# Altium footprint library Flex_PCB_footprints.PcbLib: 36 footprints (part 2 of 3)
Each footprint in its own frame and in the unit in brackets; x right, y up, seen from the top. Pads: shape width x height; smd on the part's side, far side on the other; paste and mask are expansions set on the pad; w line width, h text height; cw(c..) or ccw(c..) is an arc to the next point about the centre after c.
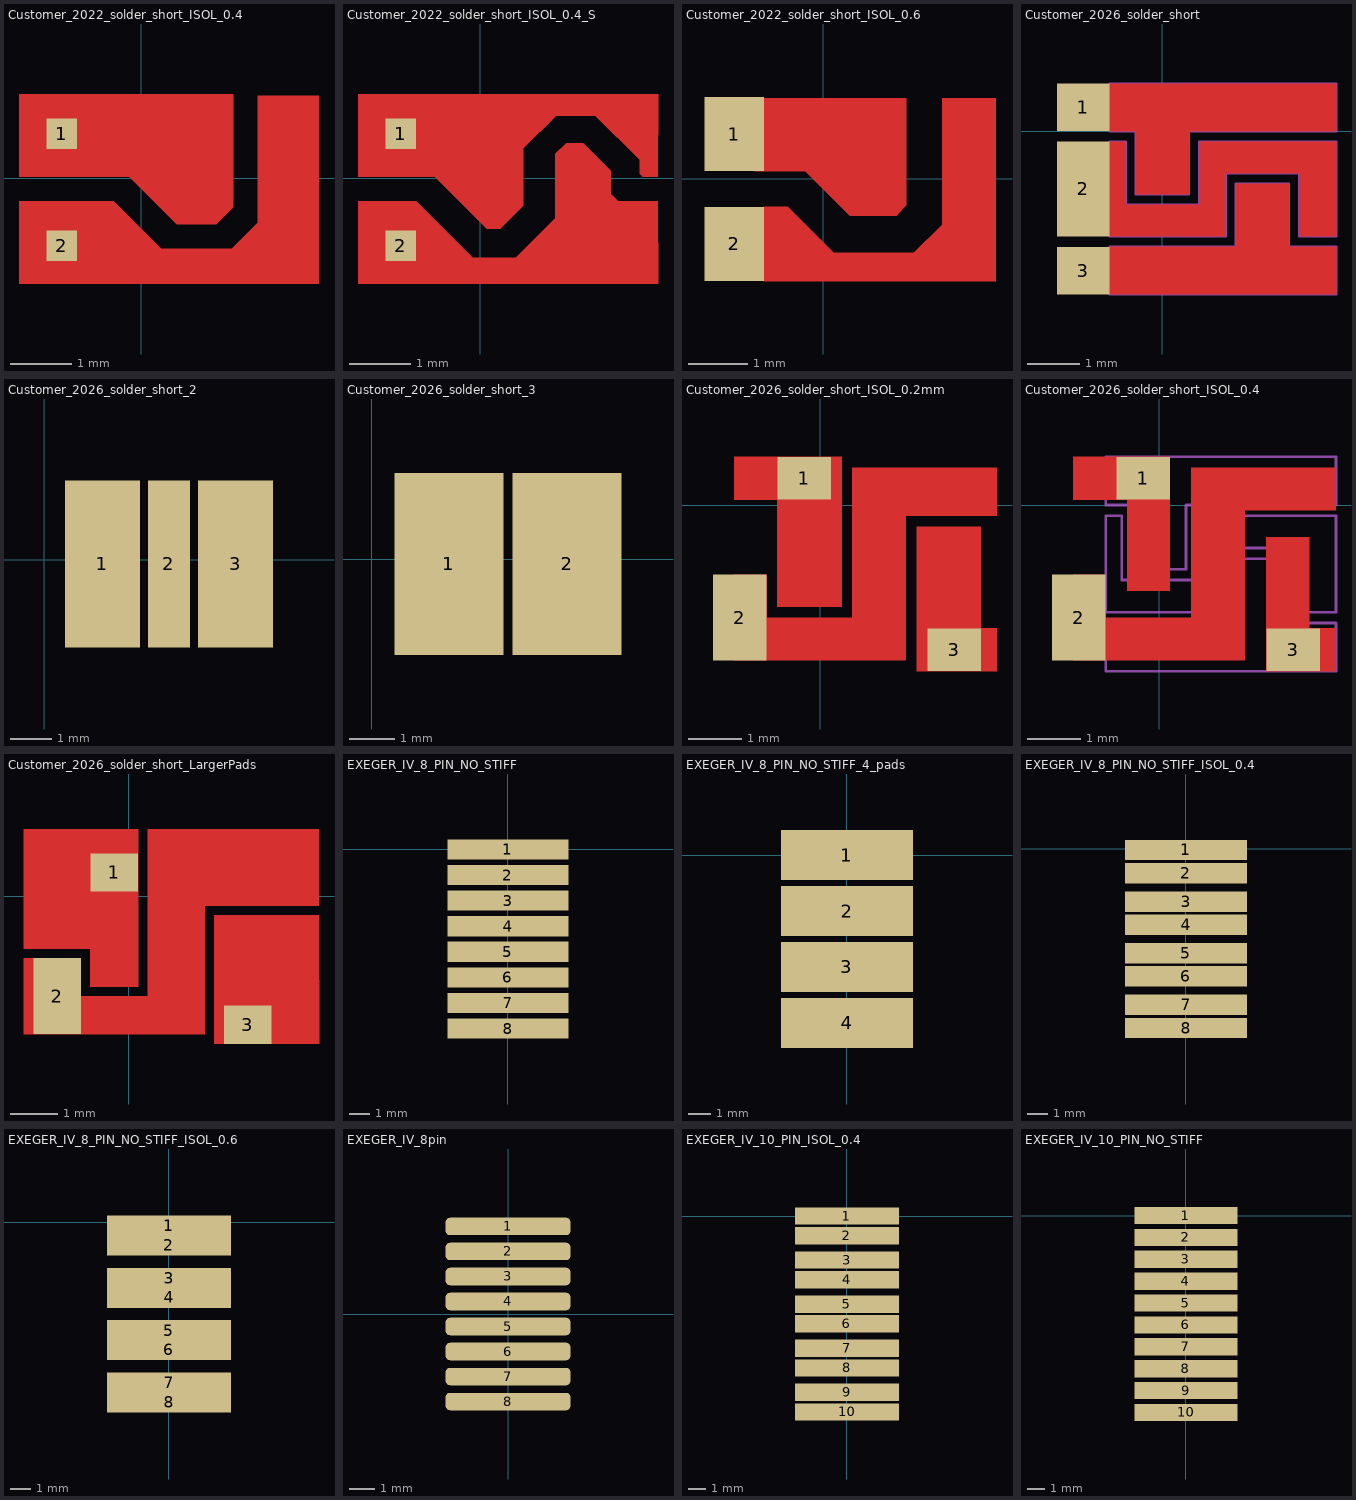
[diagram p1: the footprints below, top view; thin cyan lines are the x and y axes]

## Customer_2022_solder_short_ISOL_0.4 [mm]
pads (2):
  rect 0.5x0.5 smd paste-2 mask+0: 1(-1.3,0.725) 2(-1.3,-1.1)
Top Layer:
  region: -2,1.375 1.5,1.375 1.5,-0.475 1.225,-0.75 0.575,-0.75 -0.2,0.025 -2,0.025
  region: -2,-1.725 2.9,-1.725 2.9,1.35 1.9,1.35 1.9,-0.725 1.475,-1.15 0.325,-1.15 -0.45,-0.375 -2,-0.375
Top Paste:
  region: -2,1.375 1.5,1.375 1.5,-0.475 1.225,-0.75 0.575,-0.75 -0.2,0.025 -2,0.025
  region: -2,-1.725 2.9,-1.725 2.9,1.35 1.9,1.35 1.9,-0.725 1.475,-1.15 0.325,-1.15 -0.45,-0.375 -2,-0.375
Top Solder:
  rectangle: -2,-1.725 2.9,1.375

## Customer_2022_solder_short_ISOL_0.4_S [mm]
pads (2):
  rect 0.5x0.5 smd paste-2 mask+0: 1(-1.3,0.725) 2(-1.3,-1.1)
Top Layer:
  region: 0.7,0.488 1.237,1.025 1.875,1.025 2.6,0.3 2.6,0.075 2.65,0.025 2.9,0.025 2.9,1.375 0.7,1.375 -2,1.375 -2,0.4 -1.912,0.488
  region: -2,-1.725 2.125,-1.725 2.125,0.125 1.675,0.575 1.4,0.575 1.225,0.4 1.225,-0.65 0.575,-1.3 -0.125,-1.3 -1.05,-0.375 -2,-0.375
  region: 1.875,0 2.25,-0.375 2.9,-0.375 2.9,-1.721 2.125,-1.725 1.138,-0.737
  region: -2,1.375 0.7,1.375 0.7,-0.45 0.325,-0.825 0.1,-0.825 -0.75,0.025 -2,0.025
Top Paste:
  region: -2,-1.725 2.125,-1.725 2.125,0.125 1.675,0.575 1.4,0.575 1.225,0.4 1.225,-0.65 0.575,-1.3 -0.125,-1.3 -1.05,-0.375 -2,-0.375
  region: -2,1.375 0.7,1.375 0.7,-0.45 0.325,-0.825 0.1,-0.825 -0.75,0.025 -2,0.025
  region: 0.7,0.488 1.237,1.025 1.875,1.025 2.6,0.3 2.6,0.075 2.65,0.025 2.9,0.025 2.9,1.375 0.7,1.375 -2,1.375 -2,0.4 -1.912,0.488
  region: 1.875,0 2.25,-0.375 2.9,-0.375 2.9,-1.721 2.125,-1.725 1.138,-0.737
Top Solder:
  rectangle: -2,-1.725 2.9,1.375

## Customer_2022_solder_short_ISOL_0.6 [mm]
pads (2):
  rect 1x1.25 smd paste-2 mask+0: 1(-1.5,0.75) 2(-1.5,-1.1)
Top Layer:
  region: -1,-1.725 2.9,-1.725 2.9,1.35 2,1.35 2,0.425 2,-0.775 1.525,-1.25 0.175,-1.25 -0.6,-0.475 -1,-0.475
  region: -1.15,1.35 1.4,1.35 1.4,-0.45 1.225,-0.625 0.45,-0.625 -0.3,0.125 -1.15,0.125
Top Paste:
  rectangle: -2,-1.725 2.925,1.375
Top Solder:
  rectangle: -2,-1.725 2.9,1.375

## Customer_2026_solder_short [mm]
pads (3):
  rect 1x0.9 smd paste-2 mask+0: 1(-1.5,0.45) 3(-1.5,-2.65)
  rect 1x1.8 smd paste-2 mask+0: 2(-1.5,-1.1)
Top Layer:
  region: -1,0 -1,0.9 3.3,0.9 3.3,0 0.5,0 0.5,-1.2 -0.5,-1.2 -0.5,0
  region: -1,-2 -1,-0.2 -0.7,-0.2 -0.7,-1.4 0.7,-1.4 0.7,-0.2 3.3,-0.2 3.3,-2 2.6,-2 2.6,-0.8 1.2,-0.8 1.2,-2
  region: -1,-3.1 -1,-2.2 1.4,-2.2 1.4,-1 2.4,-1 2.4,-2.2 3.3,-2.2 3.3,-3.1 2.4,-3.1 0.9,-3.1
Top Paste:
  region: -0.8,-2.5 -0.8,-2.2 1.4,-2.2 1.4,-1 2.4,-1 2.4,-2.2 3.1,-2.2 3.1,-2.5
  region: -0.8,-2 -0.8,-0.2 -0.7,-0.2 -0.7,-1.4 0.7,-1.4 0.7,-0.2 3.1,-0.2 3.1,-2 2.6,-2 2.6,-0.8 1.2,-0.8 1.2,-2
  region: -0.8,0 -0.8,0.2 3.1,0.2 3.1,0 0.5,0 0.5,-1.2 -0.5,-1.2 -0.5,0
Top Solder:
  rectangle: -0.8,-2.5 3.1,0.2
Mechanical 15:
  lines w0.05: 2.4,-3.1 0.9,-3.1 -1,-3.1 -1,-2.2 0.9,-2.2 1.4,-2.2 1.4,-1 2.4,-1 2.4,-2.2 3.3,-2.2 3.3,-3.1 2.4,-3.1 ; 2.4,-3.1 2.4,-3.1 ; -1,-2 1.2,-2 1.2,-0.8 2.6,-0.8 2.6,-2 3.3,-2 3.3,-0.2 0.7,-0.2 0.7,-1.4 -0.7,-1.4 -0.7,-0.2 -1,-0.2 -1,-2 ; -1,0 -0.5,0 -0.5,-1.2 0.5,-1.2 0.5,0 3.3,0 3.3,0.9 0.5,0.9 -1,0.9 -1,0

## Customer_2026_solder_short_2 [mm]
pads (3):
  rect 1.8x4 smd paste+0 mask+0: 1(1.4,-0.1) 3(4.6,-0.1)
  rect 1x4 smd paste+0 mask+0: 2(3,-0.1)
Top Solder:
  rectangle: 0.5,-2.1 5.5,1.9

## Customer_2026_solder_short_3 [mm]
pads (2):
  rect 2.4x4 smd paste+0 mask+0: 1(1.7,-0.1) 2(4.3,-0.1)
Top Solder:
  rectangle: 0.5,-2.1 5.5,1.9

## Customer_2026_solder_short_ISOL_0.2mm [mm]
pads (3):
  rect 1x0.8 smd paste-2 mask+0: 1(-0.3,0.5) 3(2.5,-2.7)
  rect 1x1.6 smd paste-2 mask+0: 2(-1.5,-2.1)
Top Layer:
  region: -1.6,0.1 -1.6,0.9 0.4,0.9 0.4,-1.9 -0.8,-1.9 -0.8,0.1
  region: 1.8,-3.1 1.8,-0.4 3,-0.4 3,-2.3 3.3,-2.3 3.3,-3.1
  region: -1.6,-2.9 -1.6,-1.3 -1,-1.3 -1,-2.1 0.6,-2.1 0.6,0.7 3.3,0.7 3.3,-0.2 1.6,-0.2 1.6,-2.9
Top Paste:
  region: -1.6,-2.9 -1.6,-2.1 0.6,-2.1 0.6,0.7 3.3,0.7 3.3,-0.2 1.6,-0.2 1.6,-2.9
  region: 1.8,-2.9 1.8,-0.4 3,-0.4 3,-2.3 3.3,-2.3 3.3,-2.9
  region: -1.6,0.1 -1.6,0.7 0.4,0.7 0.4,-1.9 -0.8,-1.9 -0.8,0.1
  region: -1.6,-2.1 -1.6,-1.3 -1,-1.3 -1,-2.6 -1.1,-2.5 -1.6,-2.5
Top Solder:
  rectangle: -1.6,-2.9 3.3,0.7

## Customer_2026_solder_short_ISOL_0.4 [mm]
pads (3):
  rect 1x0.8 smd paste-2 mask+0: 1(-0.3,0.5) 3(2.5,-2.7)
  rect 1x1.6 smd paste-2 mask+0: 2(-1.5,-2.1)
Top Layer:
  region: -1.6,0.1 -1.6,0.9 0.2,0.9 0.2,0.1 0.2,-1.6 -0.6,-1.6 -0.6,0.1
  region: 2,-3.1 2,-2.3 2,-0.6 2.8,-0.6 2.8,-2.3 3.3,-2.3 3.3,-3.1
  region: -1.6,-2.9 -1.6,-1.3 -1,-1.3 -1,-2.1 0.6,-2.1 0.6,0.7 3.3,0.7 3.3,-0.1 1.6,-0.1 1.6,-2.9
Top Paste:
  region: 2,-2.9 2,-2.3 2,-0.6 2.8,-0.6 2.8,-2.3 3.3,-2.3 3.3,-2.9
  region: -1.6,-2.9 -1.6,-2.1 0.6,-2.1 0.6,0.7 3.3,0.7 3.3,-0.1 2.9,-0.1 1.6,-0.1 1.6,-2.9
  region: -1.6,0.1 -1.6,0.7 0.2,0.7 0.2,0.1 0.2,-1.6 -0.6,-1.6 -0.6,0.1
  region: -1.6,-2.1 -1.6,-1.3 -1,-1.3 -1,-2.6 -1.1,-2.5 -1.6,-2.5
Top Solder:
  rectangle: -1.6,-2.9 3.3,0.7
Mechanical 15:
  lines w0.05: 2.4,-3.1 2.4,-3.1 ; 2.4,-3.1 3.3,-3.1 3.3,-2.2 2.4,-2.2 2.4,-1 1.4,-1 1.4,-2.2 0.9,-2.2 -1,-2.2 -1,-3.1 0.9,-3.1 2.4,-3.1 ; -1,-2 -1,-0.2 -0.7,-0.2 -0.7,-1.4 0.7,-1.4 0.7,-0.2 3.3,-0.2 3.3,-2 2.6,-2 2.6,-0.8 1.2,-0.8 1.2,-2 -1,-2 ; -1,0 -1,0.9 0.5,0.9 3.3,0.9 3.3,0 0.5,0 0.5,-1.2 -0.5,-1.2 -0.5,0 -1,0

## Customer_2026_solder_short_LargerPads [mm]
pads (3):
  rect 1x0.8 smd paste-2 mask+0: 1(-0.3,0.5) 3(2.5,-2.7)
  rect 1x1.6 smd paste-2 mask+0: 2(-1.5,-2.1)
Top Layer:
  region: -2.2,-1.1 -2.2,1.4 0.2,1.4 0.2,-1.9 -0.8,-1.9 -0.8,-1.1
  region: -2.2,-2.9 -2.2,-1.3 -1,-1.3 -1,-2.1 0.4,-2.1 0.4,1.4 4,1.4 4,-0.2 1.6,-0.2 1.6,-2.9
  region: 1.8,-3.1 1.8,-0.4 4,-0.4 4,-3.1
Top Paste:
  region: -1.6,-2.1 -1.6,-1.3 -1,-1.3 -1,-2.6 -1.1,-2.5 -1.6,-2.5
  region: -1.6,-1.1 -1.6,0.7 0.2,0.7 0.2,-1.9 -0.8,-1.9 -0.8,-1.1
  region: 1.8,-2.9 1.8,-0.4 3.3,-0.4 3.3,-2.3 3.3,-2.9
  region: -1.6,-2.9 -1.6,-2.1 0.4,-2.1 0.4,0.7 3.3,0.7 3.3,-0.2 1.6,-0.2 1.6,-2.9
Top Solder:
  rectangle: -2.2,-2.9 4,1.4

## EXEGER_IV_8_PIN_NO_STIFF [mm] "TE  4-487576-9 mating"
pads (8):
  rect 6x1 smd paste-2 mask+0.1: 1(0,0) 2(0,-1.27) 3(0,-2.54) 4(0,-3.81) 5(0,-5.08) 6(0,-6.35) 7(0,-7.62) 8(0,-8.89)

## EXEGER_IV_8_PIN_NO_STIFF_4_pads [mm] "TE  4-487576-9 mating"
pads (4):
  rect 6x2.27 smd paste-2 mask+0.1: 1(0,0) 2(0,-2.54) 3(0,-5.08) 4(0,-7.62)

## EXEGER_IV_8_PIN_NO_STIFF_ISOL_0.4 [mm] "TE  4-487576-9 mating"
pads (8):
  rect 6x1 smd paste-2 mask+0.1: 1(0,-0.066) 2(0,-1.204) 3(0,-2.606) 4(0,-3.744) 5(0,-5.146) 6(0,-6.284) 7(0,-7.686) 8(0,-8.824)

## EXEGER_IV_8_PIN_NO_STIFF_ISOL_0.6 [mm] "TE  4-487576-9 mating"
pads (8):
  rect 6x1 smd paste-2 mask+0.1: 1(0,-0.166) 2(0,-1.104) 3(0,-2.706) 4(0,-3.644) 5(0,-5.246) 6(0,-6.184) 7(0,-7.786) 8(0,-8.724)

## EXEGER_IV_8pin [mm]
pads (8):
  rrect50% 5x0.7 smd paste-2 mask+0: 1(0,3.503) 2(0,2.503) 3(0,1.503) 4(0,0.503) 5(0,-0.497) 6(0,-1.497) 7(0,-2.497) 8(0,-3.497)
Top Solder:
  region: -2.5,4.453 -2.5,-4.447 2.5,-4.447 2.5,4.453

## EXEGER_IV_10_PIN_ISOL_0.4 [mm] "TE  487576-2 mating"
pads (10):
  rect 6x1 smd paste-2 mask+0.1: 1(0,0) 2(0,-1.14) 3(0,-2.54) 4(0,-3.68) 5(0,-5.08) 6(0,-6.22) 7(0,-7.62) 8(0,-8.76) 9(0,-10.16) 10(0,-11.3)

## EXEGER_IV_10_PIN_NO_STIFF [mm] "TE  487576-2 mating"
pads (10):
  rect 6x1 smd paste-2 mask+0.1: 1(0,0) 2(0,-1.27) 3(0,-2.54) 4(0,-3.81) 5(0,-5.08) 6(0,-6.35) 7(0,-7.62) 8(0,-8.89) 9(0,-10.16) 10(0,-11.43)